# Altium schematic symbol library Key4X4 H6.SchLib: 1 symbol
Pins are listed as number, name and electrical type; pins without a type are passive.

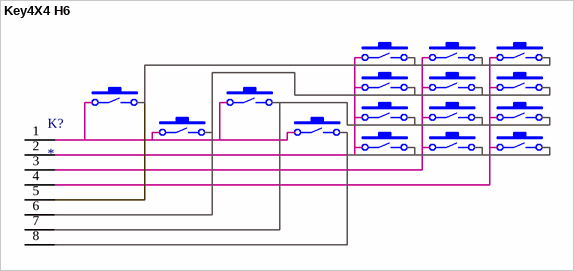
[diagram p0: symbol Key4X4 H6]

## Key4X4 H6
designator K?
pins: 1, 2, 3, 4, 5, 6, 7, 8